# EAGLE library part ARM-SWD (library AL-Connectors)
PIN HEADER
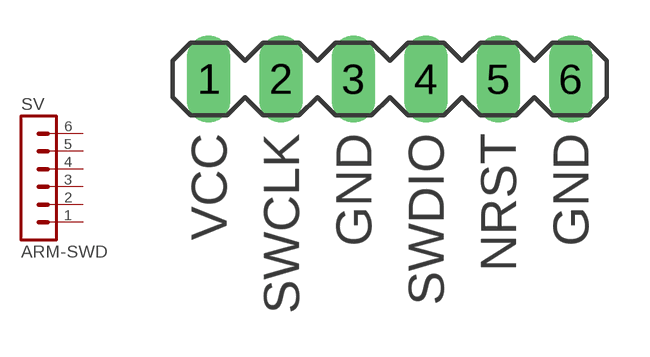
[diagram p2: symbol with the pads of ARM-SWD; footprint ARM-SWD]

Designator prefix SV

## ARM-SWD (OC_FARNELL: unknown; OC_NEWARK: unknown)  [ARM-SWD]
1  1  pas
2  2  pas
3  3  pas
4  4  pas
5  5  pas
6  6  pas

## Footprint ARM-SWD (pad centres in mm)
PIN HEADER
drill 1.016 long: 1 -6.35,0; 2 -3.81,0; 3 -1.27,0; 4 1.27,0; 5 3.81,0; 6 6.35,0